# Altium footprint library Kondensator_DIP.PcbLib: 221 footprints (part 9 of 14)
Each footprint in its own frame and in the unit in brackets; x right, y up, seen from the top. Pads: shape width x height; smd on the part's side, far side on the other; paste and mask are expansions set on the pad; w line width, h text height; cw(c..) or ccw(c..) is an arc to the next point about the centre after c.
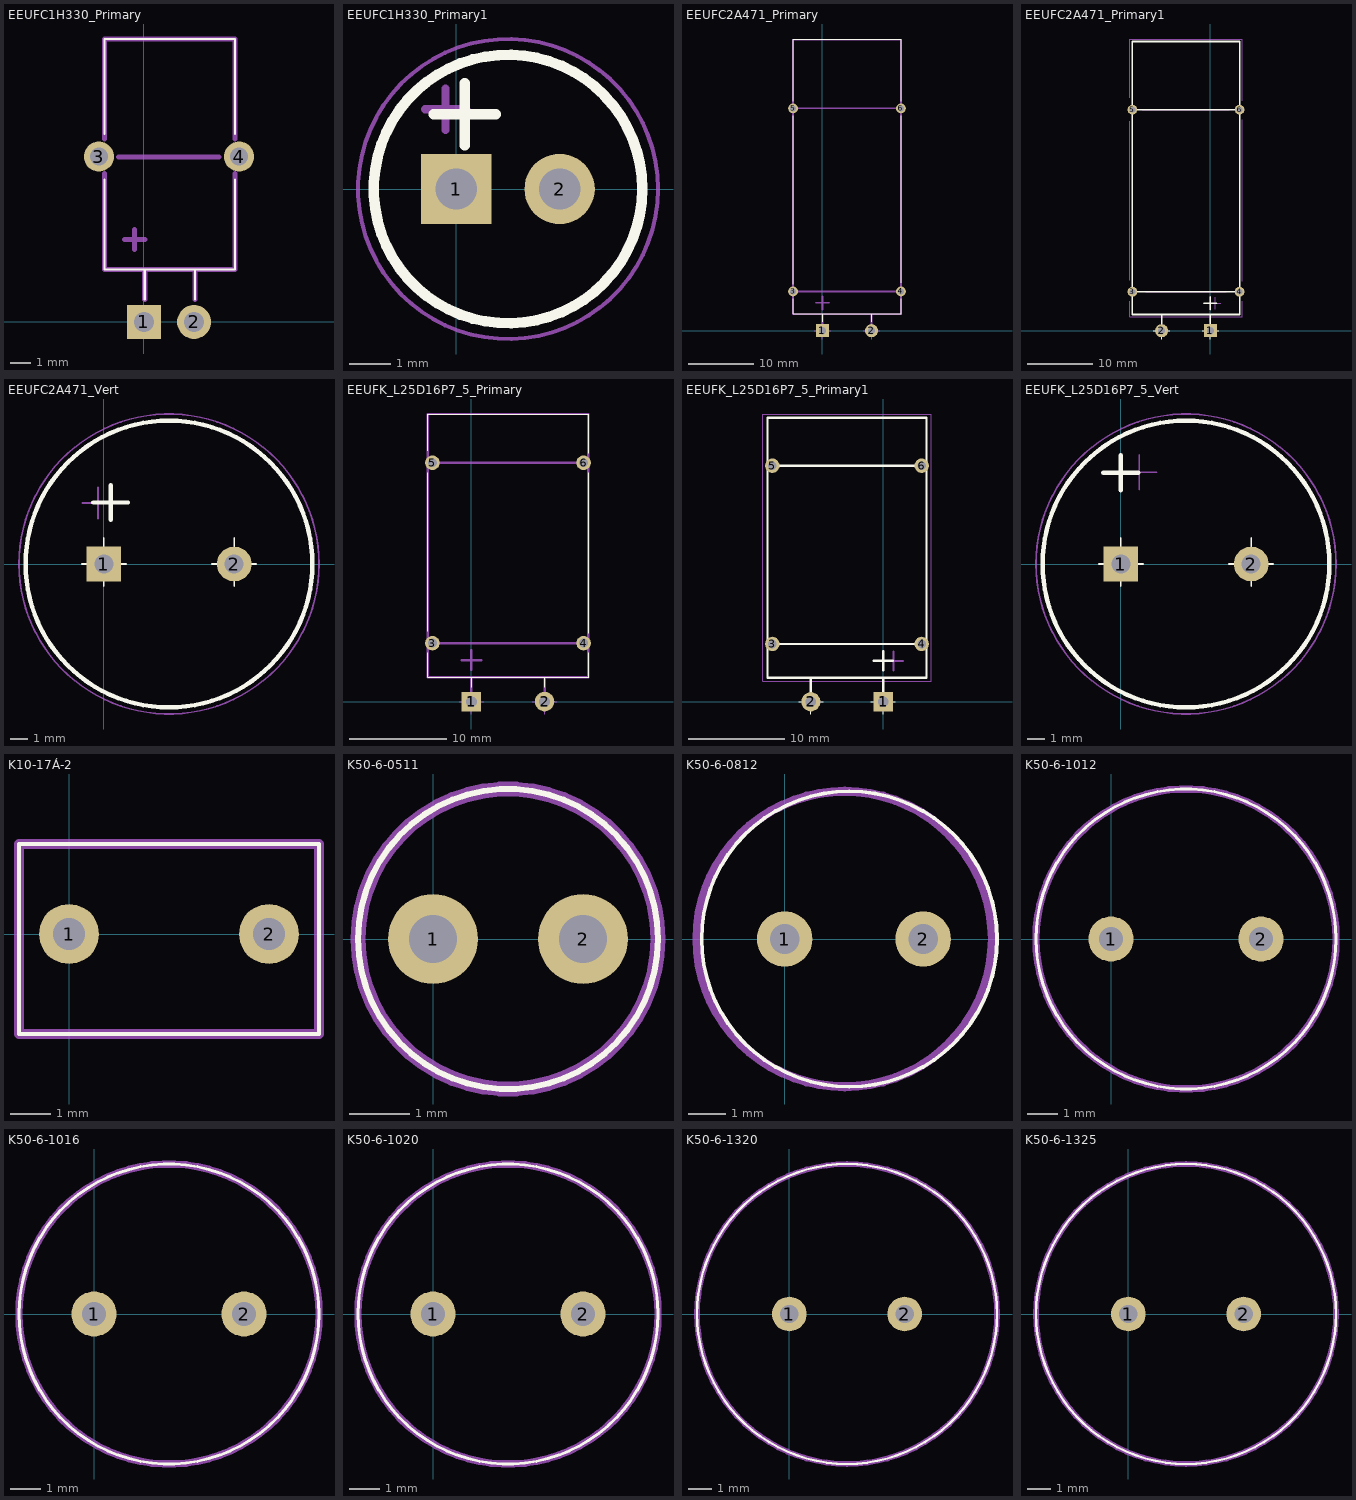
[diagram p8: the footprints below, top view; thin cyan lines are the x and y axes]

## EEUFC1H330_Primary [mm]
pads (4):
  rect 1.7x1.7 hole 1: 1(0,0)
  round 1.7 hole 1: 2(2.5,0)
  round 1.5 hole 0.9: 3(-2.25,8.25) 4(4.75,8.25)
Top Overlay:
  lines w0.1: -1.96,7.12 -1.96,2.62 4.54,2.62 4.54,7.12 ; -1.96,9.37 -1.96,14.12 4.54,14.12 4.54,9.37 ; 0.04,1.12 0.04,2.62 ; 2.54,1.12 2.54,2.62
Mechanical 1:
  lines w0.25: -1.96,7.42 -1.96,2.62 4.54,2.62 4.54,7.42 ; -1.96,9.12 -1.96,14.12 4.54,14.12 4.54,9.12 ; -1.26,8.22 3.74,8.22 ; -0.96,4.12 0.04,4.12 ; -0.46,3.62 -0.46,4.62 ; 0.04,1.12 0.04,2.62 ; 2.54,1.12 2.54,2.62

## EEUFC1H330_Primary1 [mm]
pads (2):
  rect 1.7x1.7 hole 1: 1(0,0)
  round 1.7 hole 1: 2(2.5,0)
Top Overlay:
  circle w0.254: c1.25,0 r3.25
  lines w0.254: -0.55,1.81 0.95,1.81 ; 0.2,1.06 0.2,2.56
Mechanical 1:
  circle w0.1: c1.25,0 r3.63
  lines w0.2: -0.76,1.93 0.24,1.93 ; -0.26,1.43 -0.26,2.43

## EEUFC2A471_Primary [mm]
pads (6):
  rect 2x2 hole 1.1: 1(0,0)
  round 2 hole 1.1: 2(7.5,0)
  round 1.5 hole 0.9: 3(-4.5,6) 4(12,6) 5(-4.5,34) 6(12,34)
Top Overlay:
  lines w0.1: -4.46,4.86 -4.46,2.61 12.04,2.61 12.04,4.86 ; -4.46,7.11 -4.46,32.86 ; -4.46,35.11 -4.46,44.61 12.04,44.61 12.04,35.11 ; 0.04,1.36 0.04,2.61 ; 7.54,1.36 7.54,2.61 ; 12.04,7.36 12.04,32.86
Mechanical 1:
  lines w0.1: -1.27,0 1.27,0 ; 0,-1.27 0,0 ; 6.23,0 8.77,0 ; 7.5,-1.27 7.5,0
  lines w0.254: -4.5,6 12,6 ; -4.5,34 12,34 ; -1,4.25 1,4.25 ; 0,0 0,2.5 ; 0,3.25 0,5.25 ; 7.5,0 7.5,2.5 ; -4.5,2.5 12,2.5 12,44.5 -4.5,44.5 -4.5,2.5

## EEUFC2A471_Primary1 [mm]
pads (6):
  rect 2x2 hole 1.1: 1(0,0)
  round 2 hole 1.1: 2(-7.5,0)
  round 1.5 hole 0.9: 3(-12,6) 4(4.5,6) 5(-12,34) 6(4.5,34)
Top Overlay:
  lines w0.1: -8.77,0 -6.23,0 ; -7.5,-1.27 -7.5,0 ; -1.27,0 1.27,0 ; 0,-1.27 0,0
  lines w0.254: -12,6 4.5,6 ; -12,34 4.5,34 ; -7.5,0 -7.5,2.5 ; -1,4.25 1,4.25 ; 0,0 0,2.5 ; 0,3.25 0,5.25 ; -12,2.5 4.5,2.5 4.5,44.5 -12,44.5 -12,2.5
Mechanical 1:
  lines w0.1: -12.38,4.54 -12.38,2.12 4.88,2.12 4.88,4.57 ; -12.38,7.74 -12.38,32.21 ; -12.38,35.81 -12.38,44.88 4.88,44.88 4.88,35.36 ; -10.48,34.02 2.92,34.02 ; -9.98,6.02 2.42,6.02 ; -7.49,1.37 -7.49,2.12 ; -0.08,4.22 1.62,4.22 ; 0.01,1.37 0.01,2.12 ; 0.72,3.32 0.72,5.12 ; 4.88,7.58 4.88,32.43

## EEUFC2A471_Vert [mm]
pads (2):
  rect 2x2 hole 1.1: 1(0,0)
  round 2 hole 1.1: 2(7.5,0)
Top Overlay:
  circle w0.254: c3.75,0 r8.25
  lines w0.1: -1.27,0 1.27,0 ; 0,-1.27 0,1.5 ; 6.23,0 8.77,0 ; 7.5,-1.27 7.5,1.5
  lines w0.254: -0.61,3.54 1.39,3.54 ; 0.39,2.54 0.39,4.54
Mechanical 1:
  circle w0.1: c3.75,0 r8.63
  lines w0.1: -1.23,3.51 0.47,3.51 ; -0.33,2.61 -0.33,4.41

## EEUFK_L25D16P7_5_Primary [mm]
pads (6):
  rect 2x2 hole 1.1: 1(0,0)
  round 2 hole 1.1: 2(7.5,0)
  round 1.5 hole 0.9: 3(-4,6) 4(11.5,6) 5(-4,24.5) 6(11.5,24.5)
Top Overlay:
  lines w0.1: -4.46,4.99 -4.46,2.49 12.04,2.49 12.04,4.99 ; -4.46,7.24 -4.46,23.49 ; -4.46,25.74 -4.46,29.49 12.04,29.49 12.04,25.49 ; 0.04,1.49 0.04,2.49 ; 7.54,1.49 7.54,2.49 ; 12.04,6.99 12.04,23.49
Mechanical 1:
  lines w0.1: -1.27,0 1.27,0 ; 0,-1.27 0,0 ; 6.23,0 8.77,0 ; 7.5,-1.27 7.5,0
  lines w0.25: -4.5,6 12,6 ; -4.5,24.5 12,24.5 ; -4.5,2.5 12,2.5 12,29.5 -4.5,29.5 -4.5,2.5
  lines w0.254: -1,4.25 1,4.25 ; 0,0 0,2.5 ; 0,3.25 0,5.25 ; 7.5,0 7.5,2.5

## EEUFK_L25D16P7_5_Primary1 [mm]
pads (6):
  rect 2x2 hole 1.1: 1(0,0)
  round 2 hole 1.1: 2(-7.5,0)
  round 1.5 hole 0.9: 3(-11.5,6) 4(4,6) 5(-11.5,24.5) 6(4,24.5)
Top Overlay:
  lines w0.1: -8.77,0 -6.23,0 ; -7.5,-1.27 -7.5,0 ; -1.27,0 1.27,0 ; 0,-1.27 0,0
  lines w0.25: -12,6 4.5,6 ; -12,24.5 4.5,24.5 ; -12,2.5 4.5,2.5 4.5,29.5 -12,29.5 -12,2.5
  lines w0.254: -7.5,0 -7.5,2.5 ; -1,4.25 1,4.25 ; 0,0 0,2.5 ; 0,3.25 0,5.25
Mechanical 1:
  lines w0.1: -7.5,1.29 -7.5,2.13 ; 0,1.29 0,2.13 ; -12.5,2.13 5,2.13 5,29.87 -12.5,29.87 -12.5,2.13
  lines w0.2: 0.06,4.22 2.06,4.22 ; 1.06,3.22 1.06,5.22

## EEUFK_L25D16P7_5_Vert [mm]
pads (2):
  rect 2x2 hole 1.1: 1(0,0)
  round 2 hole 1.1: 2(7.5,0)
Top Overlay:
  circle w0.254: c3.75,0 r8.25
  lines w0.1: -1.27,0 1.27,0 ; 0,-1.27 0,1.5 ; 6.23,0 8.77,0 ; 7.5,-1.27 7.5,1.5
  lines w0.254: -1,5.25 1,5.25 ; 0,4.25 0,6.25
Mechanical 1:
  circle w0.1: c3.75,0 r8.63
  lines w0.1: 0.06,5.28 2.06,5.28 ; 1.06,4.28 1.06,6.28

## K10-17Á-2 [mm]
pads (2):
  round 1.5 hole 0.8: 1(0,0) 2(5,0)
Top Overlay:
  lines w0.1: -1.25,-2.5 6.25,-2.5 6.25,2.25 -1.25,2.25 -1.25,-2.5
Mechanical 1:
  lines w0.25: -1.25,-2.5 6.25,-2.5 6.25,2.25 -1.25,2.25 -1.25,-2.5

## K50-6-0511 [mm]
pads (2):
  round 1.5 hole 0.8: 1(0,0) 2(2.5,0)
Top Overlay:
  lines w0.1: -1.25,0 cw(c1.25,0) 3.75,0 cw(c1.25,0) -1.25,0
Mechanical 1:
  lines w0.25: -1.25,0 cw(c1.25,0) 3.75,0 cw(c1.25,0) -1.25,0

## K50-6-0812 [mm]
pads (2):
  round 1.5 hole 0.8: 1(0,0) 2(3.75,0)
Top Overlay:
  lines w0.1: -2.25,0 cw(c1.75,0) 5.75,0 cw(c1.75,0) -2.25,0
Mechanical 1:
  lines w0.25: -2.375,0 cw(c1.625,0) 5.625,0 cw(c1.625,0) -2.375,0

## K50-6-1012 [mm]
pads (2):
  round 1.5 hole 0.8: 1(0,0) 2(5,0)
Top Overlay:
  lines w0.1: -2.5,0 cw(c2.5,0) 7.5,0 cw(c2.5,0) -2.5,0
Mechanical 1:
  lines w0.25: -2.5,0 cw(c2.5,0) 7.5,0 cw(c2.5,0) -2.5,0

## K50-6-1016 [mm]
pads (2):
  round 1.5 hole 0.8: 1(0,0) 2(5,0)
Top Overlay:
  lines w0.1: -2.5,0 cw(c2.5,0) 7.5,0 cw(c2.5,0) -2.5,0
Mechanical 1:
  lines w0.25: -2.5,0 cw(c2.5,0) 7.5,0 cw(c2.5,0) -2.5,0

## K50-6-1020 [mm]
pads (2):
  round 1.5 hole 0.8: 1(0,0) 2(5,0)
Top Overlay:
  lines w0.1: -2.5,0 cw(c2.5,0) 7.5,0 cw(c2.5,0) -2.5,0
Mechanical 1:
  lines w0.25: -2.5,0 cw(c2.5,0) 7.5,0 cw(c2.5,0) -2.5,0

## K50-6-1320 [mm]
pads (2):
  round 1.5 hole 0.8: 1(0,0) 2(5,0)
Top Overlay:
  lines w0.1: -4,0 cw(c2.5,0) 9,0 cw(c2.5,0) -4,0
Mechanical 1:
  lines w0.25: -4,0 cw(c2.5,0) 9,0 cw(c2.5,0) -4,0

## K50-6-1325 [mm]
pads (2):
  round 1.5 hole 0.8: 1(0,0) 2(5,0)
Top Overlay:
  lines w0.1: -4,0 cw(c2.5,0) 9,0 cw(c2.5,0) -4,0
Mechanical 1:
  lines w0.25: -4,0 cw(c2.5,0) 9,0 cw(c2.5,0) -4,0